# EAGLE library part SF72S006VBA (library bodger)
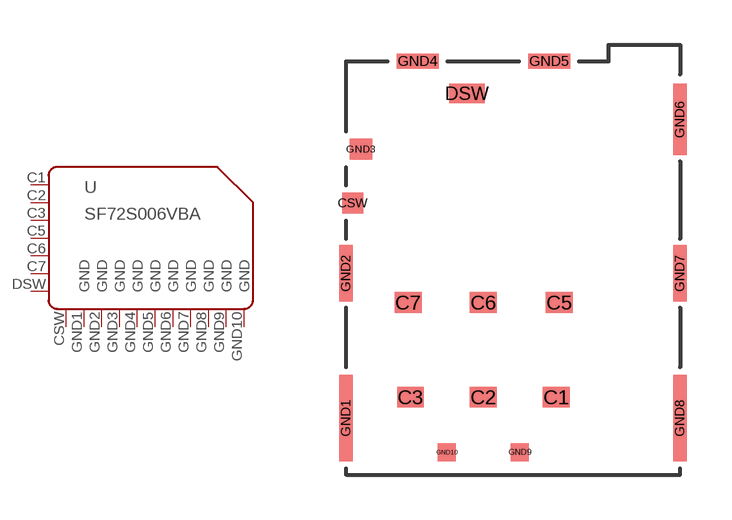
[diagram p48: symbol with the pads of SF72S006VBA; footprint SF72S006VBA]

Designator prefix -

## SF72S006VBA  [SF72S006VBA]
C1  VCC  pas
C2  RST  pas
C3  CLK  pas
C5  GND  pas
C6  VPP  pas
C7  I/O  pas
CSW  CSW  pas
DSW  DSW  pas
GND1  GND  pwr
GND2  GND  pwr
GND3  GND  pwr
GND4  GND  pwr
GND5  GND  pwr
GND6  GND  pwr
GND7  GND  pwr
GND8  GND  pwr
GND9  GND  pwr
GND10  GND  pwr

## Footprint SF72S006VBA (pad centres in mm)
smd 0.9 x 0.7: C1 1.448,2.6; C2 -0.993,2.6; C3 -3.433,2.6; C5 1.548,5.77; C6 -0.993,5.77; C7 -3.513,5.77
smd 0.7 x 0.7: CSW -5.362,9.1
smd 1.2 x 0.65: DSW -1.542,12.775
smd 0.45 x 2.9: GND1 -5.588,1.9; GND8 5.588,1.9
smd 0.45 x 1.9: GND2 -5.588,6.75; GND7 5.588,6.75
smd 0.75 x 0.7: GND3 -5.088,10.9
smd 1.4 x 0.5: GND4 -3.192,13.85; GND5 1.208,13.85
smd 0.45 x 2.4: GND6 5.588,11.9
smd 0.6 x 0.6: GND9 0.228,0.75; GND10 -2.212,0.75